# Altium schematic symbol library Microchip Microcontroller 8-Bit PIC12.SchLib: 165 symbols (part 3 of 5)
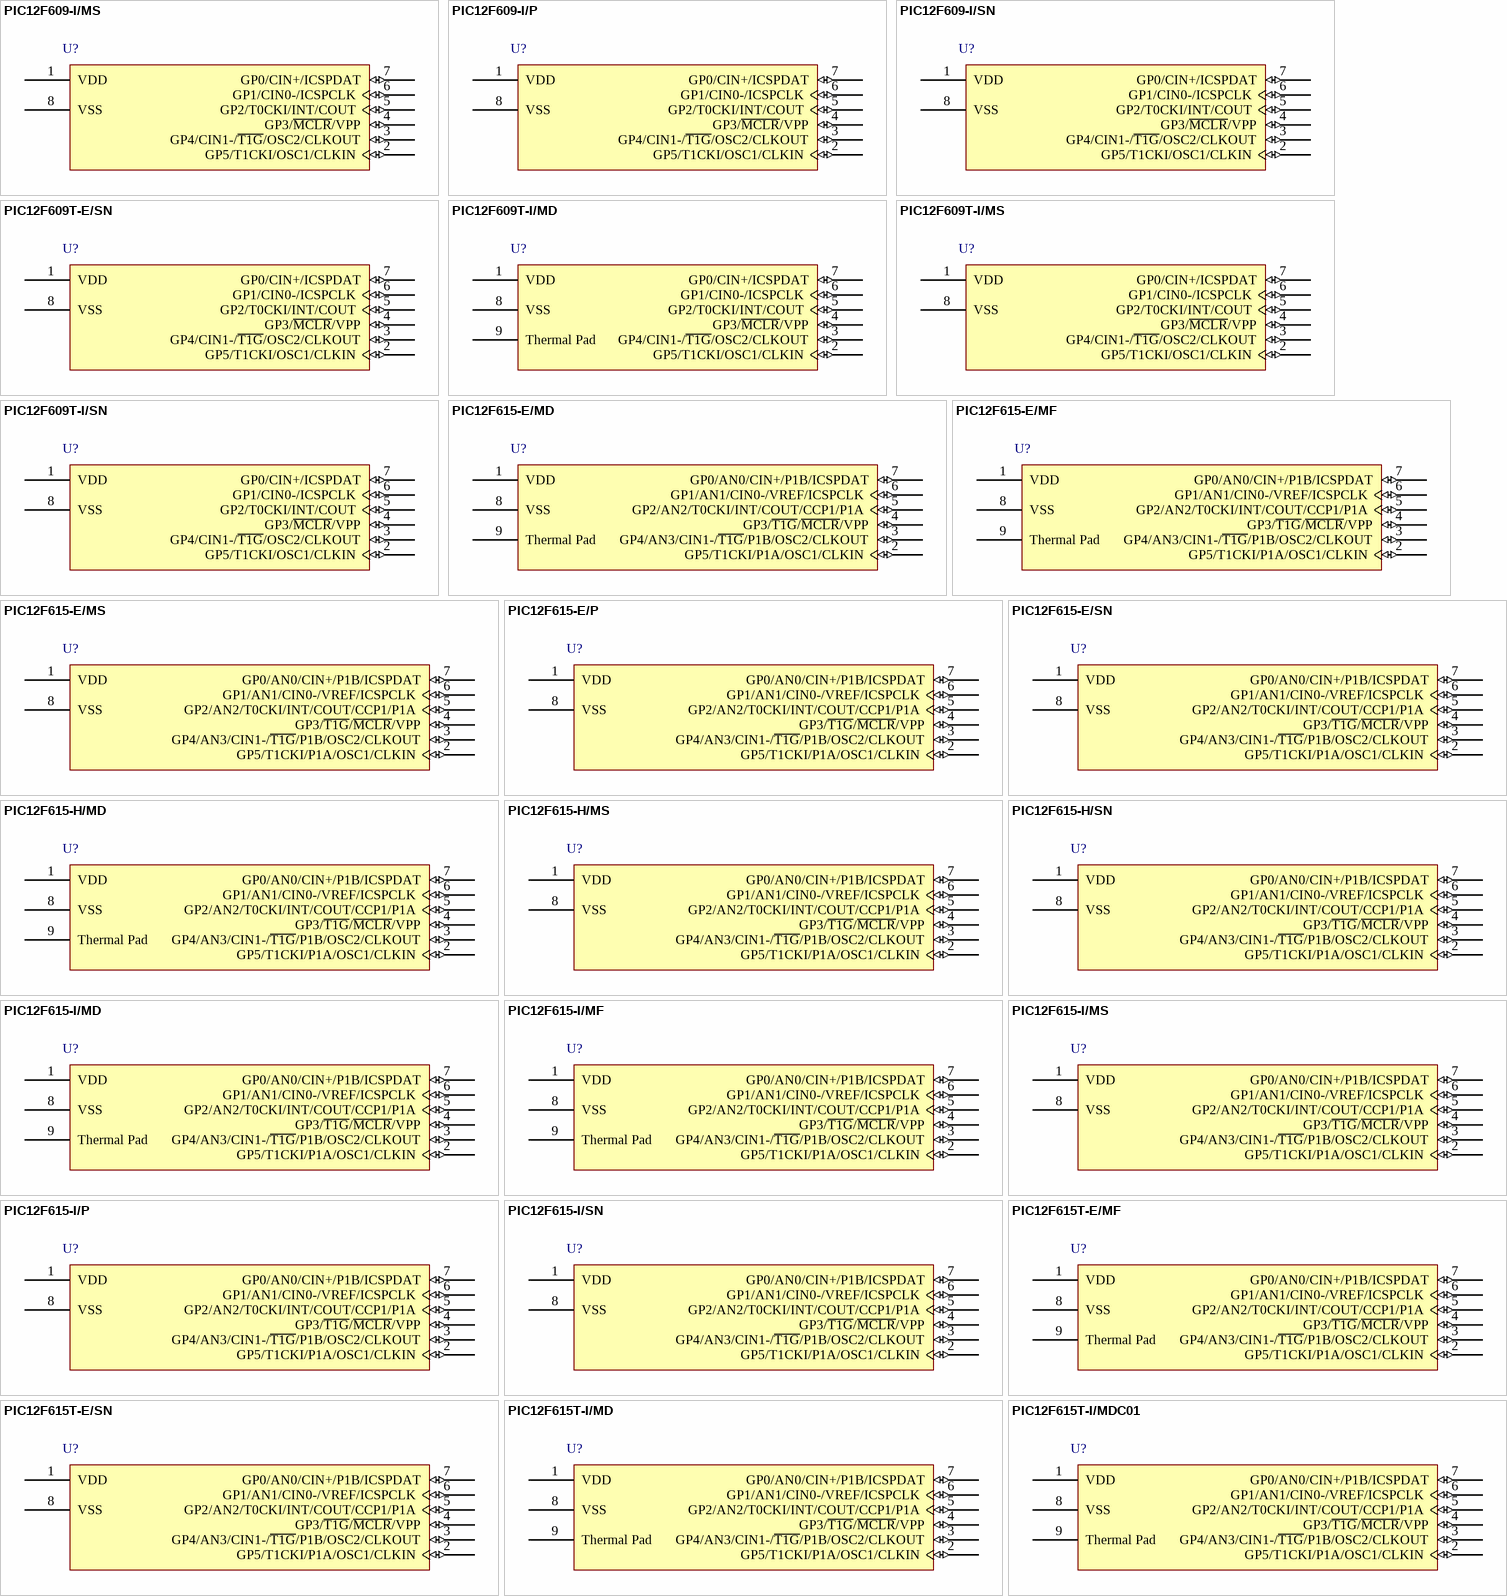
[diagram p8: symbols PIC12F609-I/MS to PIC12F615T-I/MDC01]

## PIC12F615-I/MD
designator U?
Flash-Based 8-Bit CMOS Microcontroller, 1K (x14-Bit words) Program Memory, 64 Bytes Data Memory, 8-Pin DFN, Industrial Temperature; Published: 29-Jan-2009; LatestRevisionDate: 02-Dec-2009; LatestRevisionNote: Updated to datasheet revision revC, Sep-2009; DatasheetVersion: revC, Sep-2009; PackageVersion: revBB, Aug-2009; PackageReference: DFN-MD8; Publisher: Altium Limited; PackageDescription: 8-Lead Plastic Dual Flat, No Lead Package (MD) - 4x4x0.9mm Body [DFN]; Supplier 1: Digi-Key; Supplier Part Number 1: PIC12F615-I/MD-ND; Supplier 2: Farnell; Supplier Part Number 2: 1278394; ComponentLink1Description: Datasheet; ComponentLink1URL: http://ww1.microchip.com/downloads/en/DeviceDoc/41302c.pdf; ComponentLink2Description: Packaging Specification; ComponentLink2URL: http://www.microchip.com/stellent/groups/techpub_sg/documents/packagingspec/en012702.pdf; ComponentLink3Description: Microchip.com Home; ComponentLink3URL: http://www.microchip.com/
footprint DFN-MD8 (SON, 8-Leads, Body 4x4mm, Pitch 0.8mm, Microchip Recommended)
pins: 1 VDD (power), 2 GP5/T1CKI/P1A/OSC1/CLKIN (io), 3 GP4/AN3/CIN1-/~{T1G}/P1B/OSC2/CLKOUT (io), 4 GP3/~{T1G}/~{MCLR}/VPP (io), 5 GP2/AN2/T0CKI/INT/COUT/CCP1/P1A (io), 6 GP1/AN1/CIN0-/VREF/ICSPCLK (io), 7 GP0/AN0/CIN+/P1B/ICSPDAT (io), 8 VSS (power), 9 Thermal Pad

## PIC12F615-I/MF
designator U?
Flash-Based 8-Bit CMOS Microcontroller, 1K (x14-Bit words) Program Memory, 64 Bytes Data Memory, 8-Pin DFN, Industrial Temperature; Published: 29-Jan-2009; LatestRevisionDate: 02-Dec-2009; LatestRevisionNote: Updated to datasheet revision revC, Sep-2009; DatasheetVersion: revC, Sep-2009; PackageVersion: revBB, Aug-2009; PackageReference: DFN-MF8; Publisher: Altium Limited; PackageDescription: 8-Lead Plastic Dual Flat, No Lead Package (MF) - 3x3x0.9mm Body [DFN]; Supplier 1: Digi-Key; Supplier Part Number 1: PIC12F615-I/MF-ND; Supplier 2: Farnell; Supplier Part Number 2: 1664859; ComponentLink1Description: Datasheet; ComponentLink1URL: http://ww1.microchip.com/downloads/en/DeviceDoc/41302c.pdf; ComponentLink2Description: Packaging Specification; ComponentLink2URL: http://www.microchip.com/stellent/groups/techpub_sg/documents/packagingspec/en012702.pdf; ComponentLink3Description: Microchip.com Home; ComponentLink3URL: http://www.microchip.com/
footprint DFN-MF8 (SON, 8-Leads, Body 3x3mm, Pitch 0.65mm, Microchip Recommended)
pins: 1 VDD (power), 2 GP5/T1CKI/P1A/OSC1/CLKIN (io), 3 GP4/AN3/CIN1-/~{T1G}/P1B/OSC2/CLKOUT (io), 4 GP3/~{T1G}/~{MCLR}/VPP (io), 5 GP2/AN2/T0CKI/INT/COUT/CCP1/P1A (io), 6 GP1/AN1/CIN0-/VREF/ICSPCLK (io), 7 GP0/AN0/CIN+/P1B/ICSPDAT (io), 8 VSS (power), 9 Thermal Pad

## PIC12F615-I/MS
designator U?
Flash-Based 8-Bit CMOS Microcontroller, 1K (x14-Bit words) Program Memory, 64 Bytes Data Memory, 8-Pin MSOP, Industrial Temperature; Published: 29-Jan-2009; LatestRevisionDate: 02-Dec-2009; LatestRevisionNote: Updated to datasheet revision revC, Sep-2009; DatasheetVersion: revC, Sep-2009; PackageVersion: revBB, Aug-2009; PackageReference: MSOP-MS8; Publisher: Altium Limited; PackageDescription: 8-Lead Plastic Micro Small Outline Package (MS) [MSOP]; Supplier 1: Digi-Key; Supplier Part Number 1: PIC12F615-I/MS-ND; Supplier 2: Farnell; Supplier Part Number 2: 1365035; ComponentLink1Description: Datasheet; ComponentLink1URL: http://ww1.microchip.com/downloads/en/DeviceDoc/41302c.pdf; ComponentLink2Description: Packaging Specification; ComponentLink2URL: http://www.microchip.com/stellent/groups/techpub_sg/documents/packagingspec/en012702.pdf; ComponentLink3Description: Microchip.com Home; ComponentLink3URL: http://www.microchip.com/
footprint MSOP-MS8_N (TSOP, 8-Leads, Body 3x3mm, Pitch 0.65mm, IPC Medium Density)
footprint MSOP-MS8_L (TSOP, 8-Leads, Body 3x3mm, Pitch 0.65mm, IPC High Density)
footprint MSOP-MS8_M (TSOP, 8-Leads, Body 3x3mm, Pitch 0.65mm, IPC Low Density)
pins: 1 VDD (power), 2 GP5/T1CKI/P1A/OSC1/CLKIN (io), 3 GP4/AN3/CIN1-/~{T1G}/P1B/OSC2/CLKOUT (io), 4 GP3/~{T1G}/~{MCLR}/VPP (io), 5 GP2/AN2/T0CKI/INT/COUT/CCP1/P1A (io), 6 GP1/AN1/CIN0-/VREF/ICSPCLK (io), 7 GP0/AN0/CIN+/P1B/ICSPDAT (io), 8 VSS (power)

## PIC12F615-I/P
designator U?
Flash-Based 8-Bit CMOS Microcontroller, 1K (x14-Bit words) Program Memory, 64 Bytes Data Memory, 8-Pin PDIP, Industrial Temperature; Published: 29-Jan-2009; LatestRevisionDate: 02-Dec-2009; LatestRevisionNote: Updated to datasheet revision revC, Sep-2009; DatasheetVersion: revC, Sep-2009; PackageVersion: revBB, Aug-2009; PackageReference: PDIP300-P8; Publisher: Altium Limited; PackageDescription: 8-Lead Plastic Dual In-Line (P) - 300 mil Body [PDIP]; Supplier 1: Digi-Key; Supplier Part Number 1: PIC12F615-I/P-ND; Supplier 2: Farnell; Supplier Part Number 2: 1332185; Code_JEDEC: MS-001; ComponentLink1Description: Datasheet; ComponentLink1URL: http://ww1.microchip.com/downloads/en/DeviceDoc/41302c.pdf; ComponentLink2Description: Packaging Specification; ComponentLink2URL: http://www.microchip.com/stellent/groups/techpub_sg/documents/packagingspec/en012702.pdf; ComponentLink3Description: Microchip.com Home; ComponentLink3URL: http://www.microchip.com/
footprint PDIP300-P8 (DIP, 8-Leads, Row Spacing 7.62mm, Pitch 2.54mm, Body 9.5x6.6mm)
pins: 1 VDD (power), 2 GP5/T1CKI/P1A/OSC1/CLKIN (io), 3 GP4/AN3/CIN1-/~{T1G}/P1B/OSC2/CLKOUT (io), 4 GP3/~{T1G}/~{MCLR}/VPP (io), 5 GP2/AN2/T0CKI/INT/COUT/CCP1/P1A (io), 6 GP1/AN1/CIN0-/VREF/ICSPCLK (io), 7 GP0/AN0/CIN+/P1B/ICSPDAT (io), 8 VSS (power)

## PIC12F615-I/SN
designator U?
Flash-Based 8-Bit CMOS Microcontroller, 1K (x14-Bit words) Program Memory, 64 Bytes Data Memory, 8-Pin SOIC, Industrial Temperature; Published: 29-Jan-2009; LatestRevisionDate: 02-Dec-2009; LatestRevisionNote: Updated to datasheet revision revC, Sep-2009; DatasheetVersion: revC, Sep-2009; PackageVersion: revBB, Aug-2009; PackageReference: SOIC-SN8; Publisher: Altium Limited; PackageDescription: 8-Lead Plastic Small Outline (SN) - Narrow, 3.90mm Body [SOIC]; Supplier 1: Digi-Key; Supplier Part Number 1: PIC12F615-I/SN-ND; Supplier 2: Farnell; Supplier Part Number 2: 1332186; Code_JEDEC: MS-012; Code_IPC: SOIC127P600-8; ComponentLink1Description: Datasheet; ComponentLink1URL: http://ww1.microchip.com/downloads/en/DeviceDoc/41302c.pdf; ComponentLink2Description: Packaging Specification; ComponentLink2URL: http://www.microchip.com/stellent/groups/techpub_sg/documents/packagingspec/en012702.pdf; ComponentLink3Description: Microchip.com Home; ComponentLink3URL: http://www.microchip.com/
footprint SOIC-SN8_N (SOIC, 8-Leads, Body 4.9x3.8mm, Pitch 1.27mm, IPC Medium Density)
footprint SOIC-SN8_L (SOIC, 8-Leads, Body 4.9x3.8mm, Pitch 1.27mm, IPC High Density)
footprint SOIC-SN8_M (SOIC, 8-Leads, Body 4.9x3.8mm, Pitch 1.27mm, IPC Low Density)
pins: 1 VDD (power), 2 GP5/T1CKI/P1A/OSC1/CLKIN (io), 3 GP4/AN3/CIN1-/~{T1G}/P1B/OSC2/CLKOUT (io), 4 GP3/~{T1G}/~{MCLR}/VPP (io), 5 GP2/AN2/T0CKI/INT/COUT/CCP1/P1A (io), 6 GP1/AN1/CIN0-/VREF/ICSPCLK (io), 7 GP0/AN0/CIN+/P1B/ICSPDAT (io), 8 VSS (power)

## PIC12F615T-E/MF
designator U?
Flash-Based 8-Bit CMOS Microcontroller, 1K (x14-Bit words) Program Memory, 64 Bytes Data Memory, 8-Pin DFN, Extended Temperature, Tape and Reel; Published: 29-Jan-2009; LatestRevisionDate: 02-Dec-2009; LatestRevisionNote: Updated to datasheet revision revC, Sep-2009; DatasheetVersion: revC, Sep-2009; PackageVersion: revBB, Aug-2009; PackageReference: DFN-MF8; Publisher: Altium Limited; PackageDescription: 8-Lead Plastic Dual Flat, No Lead Package (MF) - 3x3x0.9mm Body [DFN]; ComponentLink1Description: Datasheet; ComponentLink1URL: http://ww1.microchip.com/downloads/en/DeviceDoc/41302c.pdf; ComponentLink2Description: Packaging Specification; ComponentLink2URL: http://www.microchip.com/stellent/groups/techpub_sg/documents/packagingspec/en012702.pdf; ComponentLink3Description: Microchip.com Home; ComponentLink3URL: http://www.microchip.com/
footprint DFN-MF8 (SON, 8-Leads, Body 3x3mm, Pitch 0.65mm, Microchip Recommended)
pins: 1 VDD (power), 2 GP5/T1CKI/P1A/OSC1/CLKIN (io), 3 GP4/AN3/CIN1-/~{T1G}/P1B/OSC2/CLKOUT (io), 4 GP3/~{T1G}/~{MCLR}/VPP (io), 5 GP2/AN2/T0CKI/INT/COUT/CCP1/P1A (io), 6 GP1/AN1/CIN0-/VREF/ICSPCLK (io), 7 GP0/AN0/CIN+/P1B/ICSPDAT (io), 8 VSS (power), 9 Thermal Pad

## PIC12F615T-E/SN
designator U?
Flash-Based 8-Bit CMOS Microcontroller, 1K (x14-Bit words) Program Memory, 64 Bytes Data Memory, 8-Pin SOIC, Extended Temperature, Tape and Reel; Published: 29-Jan-2009; LatestRevisionDate: 02-Dec-2009; LatestRevisionNote: Updated to datasheet revision revC, Sep-2009; DatasheetVersion: revC, Sep-2009; PackageVersion: revBB, Aug-2009; PackageReference: SOIC-SN8; Publisher: Altium Limited; PackageDescription: 8-Lead Plastic Small Outline (SN) - Narrow, 3.90mm Body [SOIC]; Code_JEDEC: MS-012; Code_IPC: SOIC127P600-8; ComponentLink1Description: Datasheet; ComponentLink1URL: http://ww1.microchip.com/downloads/en/DeviceDoc/41302c.pdf; ComponentLink2Description: Packaging Specification; ComponentLink2URL: http://www.microchip.com/stellent/groups/techpub_sg/documents/packagingspec/en012702.pdf; ComponentLink3Description: Microchip.com Home; ComponentLink3URL: http://www.microchip.com/
footprint SOIC-SN8_N (SOIC, 8-Leads, Body 4.9x3.8mm, Pitch 1.27mm, IPC Medium Density)
footprint SOIC-SN8_L (SOIC, 8-Leads, Body 4.9x3.8mm, Pitch 1.27mm, IPC High Density)
footprint SOIC-SN8_M (SOIC, 8-Leads, Body 4.9x3.8mm, Pitch 1.27mm, IPC Low Density)
pins: 1 VDD (power), 2 GP5/T1CKI/P1A/OSC1/CLKIN (io), 3 GP4/AN3/CIN1-/~{T1G}/P1B/OSC2/CLKOUT (io), 4 GP3/~{T1G}/~{MCLR}/VPP (io), 5 GP2/AN2/T0CKI/INT/COUT/CCP1/P1A (io), 6 GP1/AN1/CIN0-/VREF/ICSPCLK (io), 7 GP0/AN0/CIN+/P1B/ICSPDAT (io), 8 VSS (power)

## PIC12F615T-I/MD
designator U?
Flash-Based 8-Bit CMOS Microcontroller, 1K (x14-Bit words) Program Memory, 64 Bytes Data Memory, 8-Pin DFN, Industrial Temperature, Tape and Reel; Published: 29-Jan-2009; LatestRevisionDate: 02-Dec-2009; LatestRevisionNote: Updated to datasheet revision revC, Sep-2009; DatasheetVersion: revC, Sep-2009; PackageVersion: revBB, Aug-2009; PackageReference: DFN-MD8; Publisher: Altium Limited; PackageDescription: 8-Lead Plastic Dual Flat, No Lead Package (MD) - 4x4x0.9mm Body [DFN]; Supplier 1: Digi-Key; Supplier Part Number 1: PIC12F615T-I/MD-ND; ComponentLink1Description: Datasheet; ComponentLink1URL: http://ww1.microchip.com/downloads/en/DeviceDoc/41302c.pdf; ComponentLink2Description: Packaging Specification; ComponentLink2URL: http://www.microchip.com/stellent/groups/techpub_sg/documents/packagingspec/en012702.pdf; ComponentLink3Description: Microchip.com Home; ComponentLink3URL: http://www.microchip.com/
footprint DFN-MD8 (SON, 8-Leads, Body 4x4mm, Pitch 0.8mm, Microchip Recommended)
pins: 1 VDD (power), 2 GP5/T1CKI/P1A/OSC1/CLKIN (io), 3 GP4/AN3/CIN1-/~{T1G}/P1B/OSC2/CLKOUT (io), 4 GP3/~{T1G}/~{MCLR}/VPP (io), 5 GP2/AN2/T0CKI/INT/COUT/CCP1/P1A (io), 6 GP1/AN1/CIN0-/VREF/ICSPCLK (io), 7 GP0/AN0/CIN+/P1B/ICSPDAT (io), 8 VSS (power), 9 Thermal Pad

## PIC12F615T-I/MDC01
designator U?
Flash-Based 8-Bit CMOS Microcontroller, 1K (x14-Bit words) Program Memory, 64 Bytes Data Memory, 8-Pin DFN, Industrial Temperature, Tape and Reel; Published: 29-Jan-2009; LatestRevisionDate: 02-Dec-2009; LatestRevisionNote: Updated to datasheet revision revC, Sep-2009; DatasheetVersion: revC, Sep-2009; PackageVersion: revBB, Aug-2009; PackageReference: DFN-MD8; Publisher: Altium Limited; PackageDescription: 8-Lead Plastic Dual Flat, No Lead Package (MD) - 4x4x0.9mm Body [DFN]; ComponentLink1Description: Datasheet; ComponentLink1URL: http://ww1.microchip.com/downloads/en/DeviceDoc/41302c.pdf; ComponentLink2Description: Packaging Specification; ComponentLink2URL: http://www.microchip.com/stellent/groups/techpub_sg/documents/packagingspec/en012702.pdf; ComponentLink3Description: Microchip.com Home; ComponentLink3URL: http://www.microchip.com/
footprint DFN-MD8 (SON, 8-Leads, Body 4x4mm, Pitch 0.8mm, Microchip Recommended)
pins: 1 VDD (power), 2 GP5/T1CKI/P1A/OSC1/CLKIN (io), 3 GP4/AN3/CIN1-/~{T1G}/P1B/OSC2/CLKOUT (io), 4 GP3/~{T1G}/~{MCLR}/VPP (io), 5 GP2/AN2/T0CKI/INT/COUT/CCP1/P1A (io), 6 GP1/AN1/CIN0-/VREF/ICSPCLK (io), 7 GP0/AN0/CIN+/P1B/ICSPDAT (io), 8 VSS (power), 9 Thermal Pad

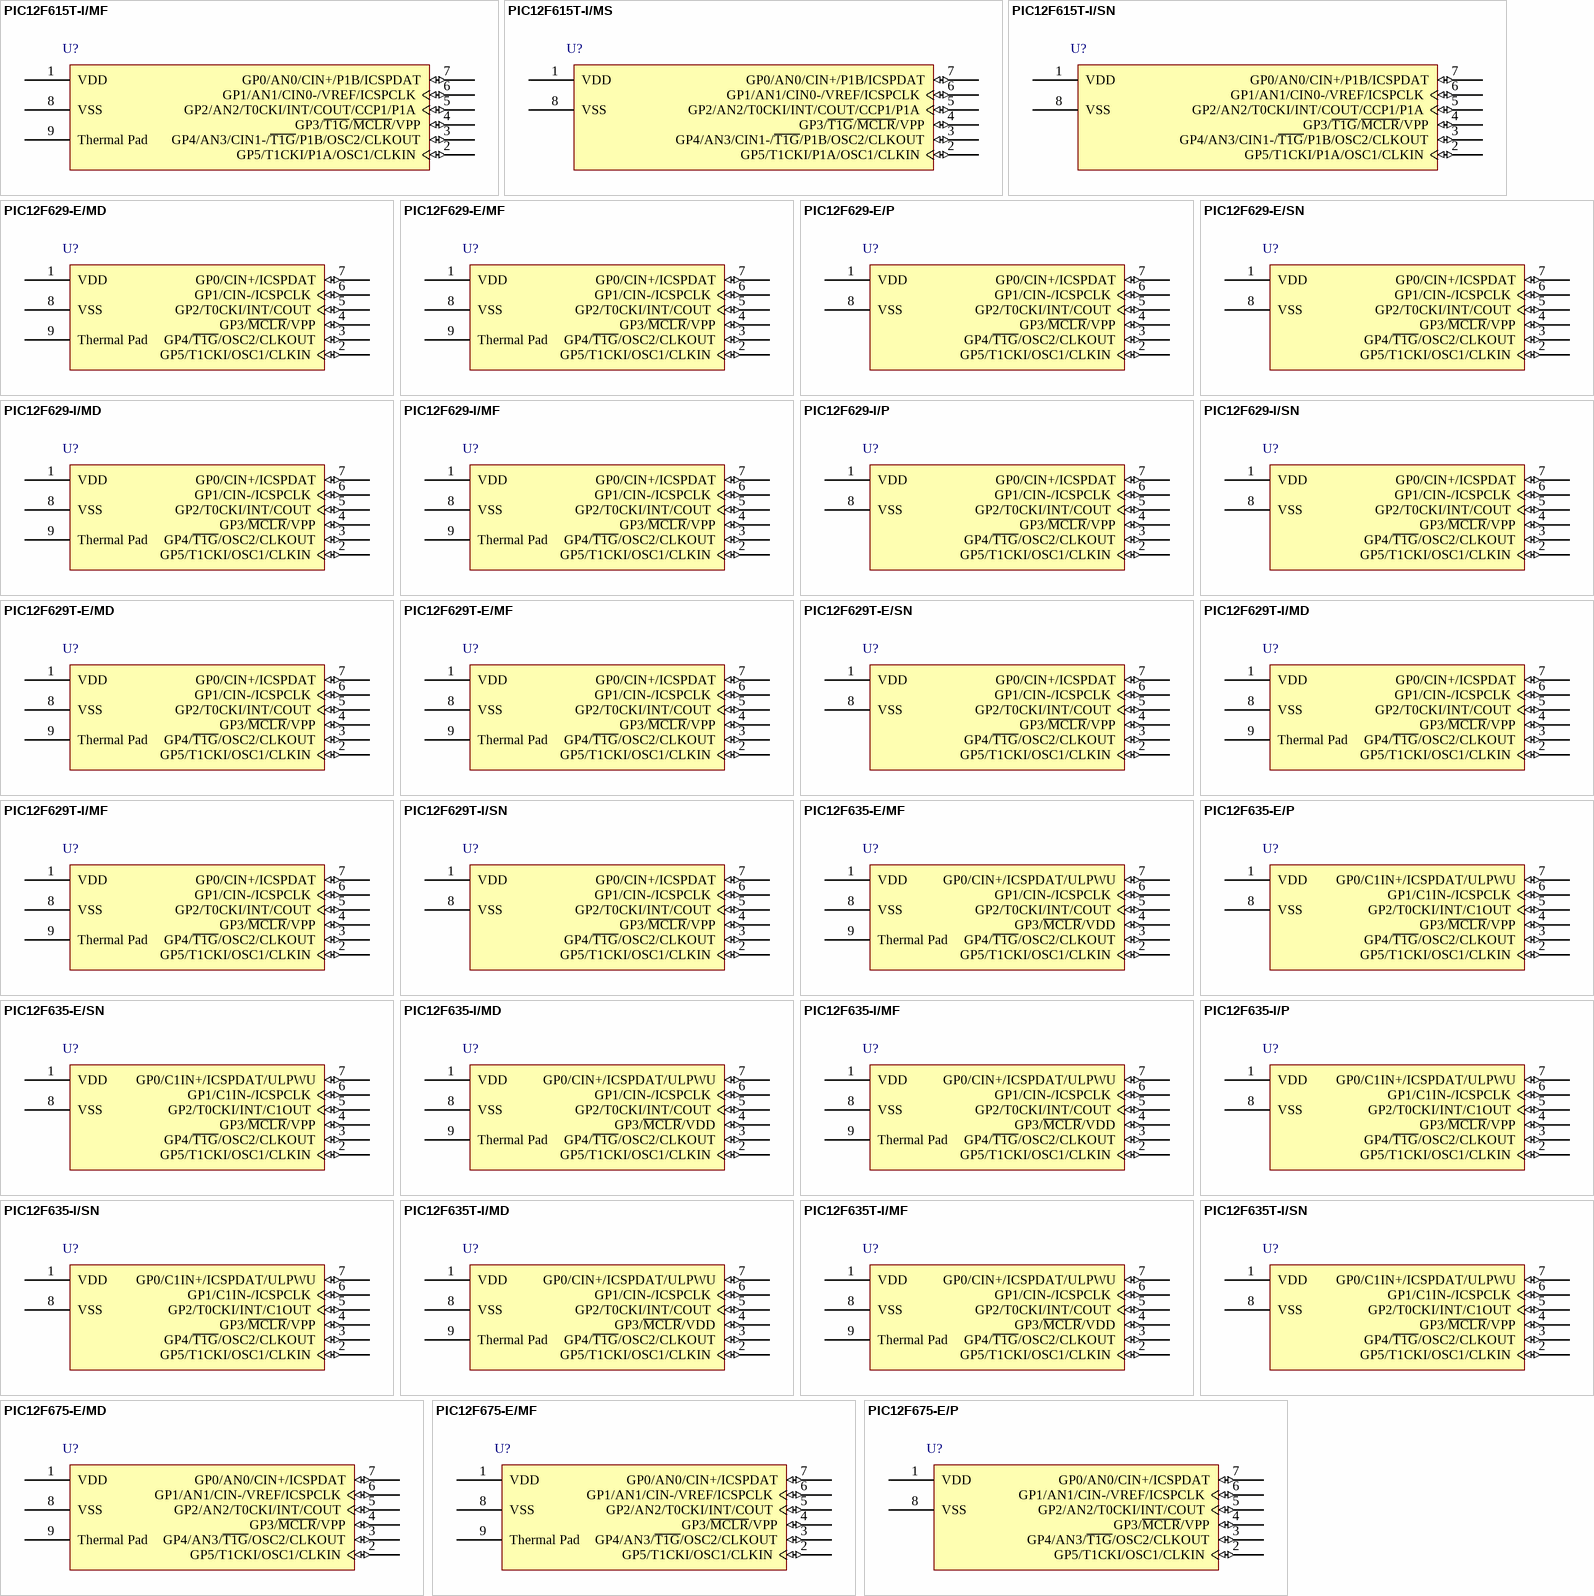
[diagram p3: symbols PIC12F615T-I/MF to PIC12F675-E/P]

## PIC12F615T-I/MF
designator U?
Flash-Based 8-Bit CMOS Microcontroller, 1K (x14-Bit words) Program Memory, 64 Bytes Data Memory, 8-Pin DFN, Industrial Temperature, Tape and Reel; Published: 2-Dec-2009; DatasheetVersion: revC, Sep-2009; PackageVersion: revBB, Aug-2009; PackageReference: DFNS-MF8; Publisher: Altium Limited; PackageDescription: 8-Lead Plastic Dual Flat, No Lead Package (MF) - 6x5 mm Body [DFN-S]; Supplier 1: Digi-Key; Supplier Part Number 1: PIC12F615T-I/MF-ND; ComponentLink1Description: Datasheet; ComponentLink1URL: http://ww1.microchip.com/downloads/en/DeviceDoc/41302c.pdf; ComponentLink2Description: Packaging Specification; ComponentLink2URL: http://www.microchip.com/stellent/groups/techpub_sg/documents/packagingspec/en012702.pdf; ComponentLink3Description: Microchip.com Home; ComponentLink3URL: http://www.microchip.com/
footprint DFNS-MF8 (SON, 8-Leads, Body 5x6mm, Pitch 1.27mm, Microchip Recommended)
pins: 1 VDD (power), 2 GP5/T1CKI/P1A/OSC1/CLKIN (io), 3 GP4/AN3/CIN1-/~{T1G}/P1B/OSC2/CLKOUT (io), 4 GP3/~{T1G}/~{MCLR}/VPP (io), 5 GP2/AN2/T0CKI/INT/COUT/CCP1/P1A (io), 6 GP1/AN1/CIN0-/VREF/ICSPCLK (io), 7 GP0/AN0/CIN+/P1B/ICSPDAT (io), 8 VSS (power), 9 Thermal Pad

## PIC12F615T-I/MS
designator U?
Flash-Based 8-Bit CMOS Microcontroller, 1K (x14-Bit words) Program Memory, 64 Bytes Data Memory, 8-Pin MSOP, Industrial Temperature, Tape and Reel; Published: 29-Jan-2009; LatestRevisionDate: 02-Dec-2009; LatestRevisionNote: Updated to datasheet revision revC, Sep-2009; DatasheetVersion: revC, Sep-2009; PackageVersion: revBB, Aug-2009; PackageReference: MSOP-MS8; Publisher: Altium Limited; PackageDescription: 8-Lead Plastic Micro Small Outline Package (MS) [MSOP]; Supplier 1: Digi-Key; Supplier Part Number 1: PIC12F615T-I/MS-ND; ComponentLink1Description: Datasheet; ComponentLink1URL: http://ww1.microchip.com/downloads/en/DeviceDoc/41302c.pdf; ComponentLink2Description: Packaging Specification; ComponentLink2URL: http://www.microchip.com/stellent/groups/techpub_sg/documents/packagingspec/en012702.pdf; ComponentLink3Description: Microchip.com Home; ComponentLink3URL: http://www.microchip.com/
footprint MSOP-MS8_N (TSOP, 8-Leads, Body 3x3mm, Pitch 0.65mm, IPC Medium Density)
footprint MSOP-MS8_L (TSOP, 8-Leads, Body 3x3mm, Pitch 0.65mm, IPC High Density)
footprint MSOP-MS8_M (TSOP, 8-Leads, Body 3x3mm, Pitch 0.65mm, IPC Low Density)
pins: 1 VDD (power), 2 GP5/T1CKI/P1A/OSC1/CLKIN (io), 3 GP4/AN3/CIN1-/~{T1G}/P1B/OSC2/CLKOUT (io), 4 GP3/~{T1G}/~{MCLR}/VPP (io), 5 GP2/AN2/T0CKI/INT/COUT/CCP1/P1A (io), 6 GP1/AN1/CIN0-/VREF/ICSPCLK (io), 7 GP0/AN0/CIN+/P1B/ICSPDAT (io), 8 VSS (power)

## PIC12F615T-I/SN
designator U?
Flash-Based 8-Bit CMOS Microcontroller, 1K (x14-Bit words) Program Memory, 64 Bytes Data Memory, 8-Pin SOIC, Industrial Temperature, Tape and Reel; Published: 29-Jan-2009; LatestRevisionDate: 02-Dec-2009; LatestRevisionNote: Updated to datasheet revision revC, Sep-2009; DatasheetVersion: revC, Sep-2009; PackageVersion: revBB, Aug-2009; PackageReference: SOIC-SN8; Publisher: Altium Limited; PackageDescription: 8-Lead Plastic Small Outline (SN) - Narrow, 3.90mm Body [SOIC]; Supplier 1: Digi-Key; Supplier Part Number 1: PIC12F615T-I/SN-ND; Code_JEDEC: MS-012; Code_IPC: SOIC127P600-8; ComponentLink1Description: Datasheet; ComponentLink1URL: http://ww1.microchip.com/downloads/en/DeviceDoc/41302c.pdf; ComponentLink2Description: Packaging Specification; ComponentLink2URL: http://www.microchip.com/stellent/groups/techpub_sg/documents/packagingspec/en012702.pdf; ComponentLink3Description: Microchip.com Home; ComponentLink3URL: http://www.microchip.com/
footprint SOIC-SN8_N (SOIC, 8-Leads, Body 4.9x3.8mm, Pitch 1.27mm, IPC Medium Density)
footprint SOIC-SN8_L (SOIC, 8-Leads, Body 4.9x3.8mm, Pitch 1.27mm, IPC High Density)
footprint SOIC-SN8_M (SOIC, 8-Leads, Body 4.9x3.8mm, Pitch 1.27mm, IPC Low Density)
pins: 1 VDD (power), 2 GP5/T1CKI/P1A/OSC1/CLKIN (io), 3 GP4/AN3/CIN1-/~{T1G}/P1B/OSC2/CLKOUT (io), 4 GP3/~{T1G}/~{MCLR}/VPP (io), 5 GP2/AN2/T0CKI/INT/COUT/CCP1/P1A (io), 6 GP1/AN1/CIN0-/VREF/ICSPCLK (io), 7 GP0/AN0/CIN+/P1B/ICSPDAT (io), 8 VSS (power)

## PIC12F629-E/MD
designator U?
Flash-Based 8-Bit CMOS Microcontroller, 1K (x14-Bit words) Program Memory, 192 Bytes Data Memory, 8-Pin DFN, Extended Temperature; Published: 29-Jan-2009; LatestRevisionDate: 02-Dec-2009; LatestRevisionNote: Updated to datasheet revision revF, Sep-2009.; DatasheetVersion: revF, Sep-2009; PackageVersion: revBB, Aug-2009; PackageReference: DFN-MD8; Publisher: Altium Limited; PackageDescription: 8-Lead Plastic Dual Flat, No Lead Package (MD) - 4x4x0.9mm Body [DFN]; Supplier 1: Digi-Key; Supplier Part Number 1: PIC12F629-E/MD-ND; ComponentLink1Description: Datasheet; ComponentLink1URL: http://ww1.microchip.com/downloads/en/DeviceDoc/41190F.pdf; ComponentLink2Description: Packaging Specification; ComponentLink2URL: http://www.microchip.com/stellent/groups/techpub_sg/documents/packagingspec/en012702.pdf; ComponentLink3Description: Microchip.com Home; ComponentLink3URL: http://www.microchip.com/
footprint DFN-MD8 (SON, 8-Leads, Body 4x4mm, Pitch 0.8mm, Microchip Recommended)
pins: 1 VDD (power), 2 GP5/T1CKI/OSC1/CLKIN (io), 3 GP4/~{T1G}/OSC2/CLKOUT (io), 4 GP3/~{MCLR}/VPP (io), 5 GP2/T0CKI/INT/COUT (io), 6 GP1/CIN-/ICSPCLK (io), 7 GP0/CIN+/ICSPDAT (io), 8 VSS (power), 9 Thermal Pad

## PIC12F629-E/MF
designator U?
Flash-Based 8-Bit CMOS Microcontroller, 1K (x14-Bit words) Program Memory, 192 Bytes Data Memory, 8-Pin DFN, Extended Temperature; Published: 29-Jan-2009; LatestRevisionDate: 02-Dec-2009; LatestRevisionNote: Updated to datasheet revision revF, Sep-2009.; DatasheetVersion: revF, Sep-2009; PackageVersion: revBB, Aug-2009; PackageReference: DFNS-MF8; Publisher: Altium Limited; PackageDescription: 8-Lead Plastic Dual Flat, No Lead Package (MF) - 6x5 mm Body [DFN-S]; Supplier 1: Digi-Key; Supplier Part Number 1: PIC12F629-E/MF-ND; ComponentLink1Description: Datasheet; ComponentLink1URL: http://ww1.microchip.com/downloads/en/DeviceDoc/41190F.pdf; ComponentLink2Description: Packaging Specification; ComponentLink2URL: http://www.microchip.com/stellent/groups/techpub_sg/documents/packagingspec/en012702.pdf; ComponentLink3Description: Microchip.com Home; ComponentLink3URL: http://www.microchip.com/
footprint DFNS-MF8 (SON, 8-Leads, Body 5x6mm, Pitch 1.27mm, Microchip Recommended)
pins: 1 VDD (power), 2 GP5/T1CKI/OSC1/CLKIN (io), 3 GP4/~{T1G}/OSC2/CLKOUT (io), 4 GP3/~{MCLR}/VPP (io), 5 GP2/T0CKI/INT/COUT (io), 6 GP1/CIN-/ICSPCLK (io), 7 GP0/CIN+/ICSPDAT (io), 8 VSS (power), 9 Thermal Pad

## PIC12F629-E/P
designator U?
FLASH-Based 8-Bit CMOS Microcontroller, 8-Pin PDIP, Extended Temperature; Note: Refer to data sheet (DS41190F) for details of supply voltage range under different conditions.; Published: 11-Oct-2004; LatestRevisionDate: 02-Dec-2009; LatestRevisionNote: Updated to datasheet revision revF, Sep-2009.; DatasheetVersion: revF, Sep-2009; PackageVersion: revBB, Aug-2009; PackageReference: PDIP300-P8; Publisher: Altium Limited; PackageDescription: 8-Lead Plastic Dual In-Line (P) - 300 mil Body [PDIP]; Supplier 1: Digi-Key; Supplier Part Number 1: PIC12F629-E/P-ND; Supplier 2: Farnell; Supplier Part Number 2: 1292253; Code_JEDEC: MS-001; ComponentLink1Description: Datasheet; ComponentLink1URL: http://ww1.microchip.com/downloads/en/DeviceDoc/41190F.pdf; ComponentLink2Description: Packaging Specification; ComponentLink2URL: http://www.microchip.com/stellent/groups/techpub_sg/documents/packagingspec/en012702.pdf; ComponentLink3Description: Microchip.com Home; ComponentLink3URL: http://www.microchip.com/
footprint PDIP300-P8 (DIP, 8-Leads, Row Spacing 7.62mm, Pitch 2.54mm, Body 9.5x6.6mm)
pins: 1 VDD (power), 2 GP5/T1CKI/OSC1/CLKIN (io), 3 GP4/~{T1G}/OSC2/CLKOUT (io), 4 GP3/~{MCLR}/VPP (io), 5 GP2/T0CKI/INT/COUT (io), 6 GP1/CIN-/ICSPCLK (io), 7 GP0/CIN+/ICSPDAT (io), 8 VSS (power)

## PIC12F629-E/SN
designator U?
FLASH-Based 8-Bit CMOS Microcontroller, 8-Pin SOIC 150mil, Extended Temperature; Note: Refer to data sheet (DS41190F) for details of supply voltage range under different conditions.; Published: 11-Oct-2004; LatestRevisionDate: 02-Dec-2009; LatestRevisionNote: Updated to datasheet revision revF, Sep-2009.; DatasheetVersion: revF, Sep-2009; PackageVersion: revBB, Aug-2009; PackageReference: SOIC-SN8; Publisher: Altium Limited; PackageDescription: 8-Lead Plastic Small Outline (SN) - Narrow, 3.90mm Body [SOIC]; Supplier 1: Digi-Key; Supplier Part Number 1: PIC12F629-E/SN-ND; Supplier 2: Farnell; Supplier Part Number 2: 1567988; Code_JEDEC: MS-012; Code_IPC: SOIC127P600-8; ComponentLink1Description: Datasheet; ComponentLink1URL: http://ww1.microchip.com/downloads/en/DeviceDoc/41190F.pdf; ComponentLink2Description: Packaging Specification; ComponentLink2URL: http://www.microchip.com/stellent/groups/techpub_sg/documents/packagingspec/en012702.pdf; ComponentLink3Description: Microchip.com Home; ComponentLink3URL: http://www.microchip.com/
footprint SOIC-SN8_N (SOIC, 8-Leads, Body 4.9x3.8mm, Pitch 1.27mm, IPC Medium Density)
footprint SOIC-SN8_L (SOIC, 8-Leads, Body 4.9x3.8mm, Pitch 1.27mm, IPC High Density)
footprint SOIC-SN8_M (SOIC, 8-Leads, Body 4.9x3.8mm, Pitch 1.27mm, IPC Low Density)
pins: 1 VDD (power), 2 GP5/T1CKI/OSC1/CLKIN (io), 3 GP4/~{T1G}/OSC2/CLKOUT (io), 4 GP3/~{MCLR}/VPP (io), 5 GP2/T0CKI/INT/COUT (io), 6 GP1/CIN-/ICSPCLK (io), 7 GP0/CIN+/ICSPDAT (io), 8 VSS (power)

## PIC12F629-I/MD
designator U?
Flash-Based 8-Bit CMOS Microcontroller, 1K (x14-Bit words) Program Memory, 192 Bytes Data Memory, 8-Pin DFN, Industrial Temperature; Published: 29-Jan-2009; LatestRevisionDate: 02-Dec-2009; LatestRevisionNote: Updated to datasheet revision revF, Sep-2009.; DatasheetVersion: revF, Sep-2009; PackageVersion: revBB, Aug-2009; PackageReference: DFN-MD8; Publisher: Altium Limited; PackageDescription: 8-Lead Plastic Dual Flat, No Lead Package (MD) - 4x4x0.9mm Body [DFN]; Supplier 1: Digi-Key; Supplier Part Number 1: PIC12F629-I/MD-ND; Supplier 2: Farnell; Supplier Part Number 2: 1332187; ComponentLink1Description: Datasheet; ComponentLink1URL: http://ww1.microchip.com/downloads/en/DeviceDoc/41190F.pdf; ComponentLink2Description: Packaging Specification; ComponentLink2URL: http://www.microchip.com/stellent/groups/techpub_sg/documents/packagingspec/en012702.pdf; ComponentLink3Description: Microchip.com Home; ComponentLink3URL: http://www.microchip.com/
footprint DFN-MD8 (SON, 8-Leads, Body 4x4mm, Pitch 0.8mm, Microchip Recommended)
pins: 1 VDD (power), 2 GP5/T1CKI/OSC1/CLKIN (io), 3 GP4/~{T1G}/OSC2/CLKOUT (io), 4 GP3/~{MCLR}/VPP (io), 5 GP2/T0CKI/INT/COUT (io), 6 GP1/CIN-/ICSPCLK (io), 7 GP0/CIN+/ICSPDAT (io), 8 VSS (power), 9 Thermal Pad

## PIC12F629-I/MF
designator U?
Flash-Based 8-Bit CMOS Microcontroller, 1K (x14-Bit words) Program Memory, 192 Bytes Data Memory, 8-Pin DFN, Industrial Temperature; Published: 29-Jan-2009; LatestRevisionDate: 02-Dec-2009; LatestRevisionNote: Updated to datasheet revision revF, Sep-2009.; DatasheetVersion: revF, Sep-2009; PackageVersion: revBB, Aug-2009; PackageReference: DFNS-MF8; Publisher: Altium Limited; PackageDescription: 8-Lead Plastic Dual Flat, No Lead Package (MF) - 6x5 mm Body [DFN-S]; Supplier 1: Digi-Key; Supplier Part Number 1: PIC12F629-I/MF-ND; Supplier 2: Farnell; Supplier Part Number 2: 1618004; ComponentLink1Description: Datasheet; ComponentLink1URL: http://ww1.microchip.com/downloads/en/DeviceDoc/41190F.pdf; ComponentLink2Description: Packaging Specification; ComponentLink2URL: http://www.microchip.com/stellent/groups/techpub_sg/documents/packagingspec/en012702.pdf; ComponentLink3Description: Microchip.com Home; ComponentLink3URL: http://www.microchip.com/
footprint DFNS-MF8 (SON, 8-Leads, Body 5x6mm, Pitch 1.27mm, Microchip Recommended)
pins: 1 VDD (power), 2 GP5/T1CKI/OSC1/CLKIN (io), 3 GP4/~{T1G}/OSC2/CLKOUT (io), 4 GP3/~{MCLR}/VPP (io), 5 GP2/T0CKI/INT/COUT (io), 6 GP1/CIN-/ICSPCLK (io), 7 GP0/CIN+/ICSPDAT (io), 8 VSS (power), 9 Thermal Pad

## PIC12F629-I/P
designator U?
FLASH-Based 8-Bit CMOS Microcontroller, 8-Pin PDIP, Industrial Temperature; Note: Refer to data sheet (DS41190F) for details of supply voltage range under different conditions.; Published: 11-Oct-2004; LatestRevisionDate: 02-Dec-2009; LatestRevisionNote: Updated to datasheet revision revF, Sep-2009.; DatasheetVersion: revF, Sep-2009; PackageVersion: revBB, Aug-2009; PackageReference: PDIP300-P8; Publisher: Altium Limited; PackageDescription: 8-Lead Plastic Dual In-Line (P) - 300 mil Body [PDIP]; Supplier 1: Digi-Key; Supplier Part Number 1: PIC12F629-I/P-ND; Supplier 2: Farnell; Supplier Part Number 2: 9758992; Supplier 3: Farnell; Supplier Part Number 3: 1523920; Code_JEDEC: MS-001; ComponentLink1Description: Datasheet; ComponentLink1URL: http://ww1.microchip.com/downloads/en/DeviceDoc/41190F.pdf; ComponentLink2Description: Packaging Specification; ComponentLink2URL: http://www.microchip.com/stellent/groups/techpub_sg/documents/packagingspec/en012702.pdf; ComponentLink3Description: Microchip.com Home; ComponentLink3URL: http://www.microchip.com/
footprint PDIP300-P8 (DIP, 8-Leads, Row Spacing 7.62mm, Pitch 2.54mm, Body 9.5x6.6mm)
pins: 1 VDD (power), 2 GP5/T1CKI/OSC1/CLKIN (io), 3 GP4/~{T1G}/OSC2/CLKOUT (io), 4 GP3/~{MCLR}/VPP (io), 5 GP2/T0CKI/INT/COUT (io), 6 GP1/CIN-/ICSPCLK (io), 7 GP0/CIN+/ICSPDAT (io), 8 VSS (power)

## PIC12F629-I/SN
designator U?
FLASH-Based 8-Bit CMOS Microcontroller, 8-Pin SOIC 150mil, Industrial Temperature; Note: Refer to data sheet (DS41190F) for details of supply voltage range under different conditions.; Published: 11-Oct-2004; LatestRevisionDate: 02-Dec-2009; LatestRevisionNote: Updated to datasheet revision revF, Sep-2009.; DatasheetVersion: revF, Sep-2009; PackageVersion: revBB, Aug-2009; PackageReference: SOIC-SN8; Publisher: Altium Limited; PackageDescription: 8-Lead Plastic Small Outline (SN) - Narrow, 3.90mm Body [SOIC]; Supplier 1: Digi-Key; Supplier Part Number 1: PIC12F629-I/SN-ND; Supplier 2: Farnell; Supplier Part Number 2: 9759000; Supplier 3: Farnell; Supplier Part Number 3: 1660010; Code_JEDEC: MS-012; Code_IPC: SOIC127P600-8; ComponentLink1Description: Datasheet; ComponentLink1URL: http://ww1.microchip.com/downloads/en/DeviceDoc/41190F.pdf; ComponentLink2Description: Packaging Specification; ComponentLink2URL: http://www.microchip.com/stellent/groups/techpub_sg/documents/packagingspec/en012702.pdf; ComponentLink3Description: Microchip.com Home; ComponentLink3URL: http://www.microchip.com/
footprint SOIC-SN8_N (SOIC, 8-Leads, Body 4.9x3.8mm, Pitch 1.27mm, IPC Medium Density)
footprint SOIC-SN8_L (SOIC, 8-Leads, Body 4.9x3.8mm, Pitch 1.27mm, IPC High Density)
footprint SOIC-SN8_M (SOIC, 8-Leads, Body 4.9x3.8mm, Pitch 1.27mm, IPC Low Density)
pins: 1 VDD (power), 2 GP5/T1CKI/OSC1/CLKIN (io), 3 GP4/~{T1G}/OSC2/CLKOUT (io), 4 GP3/~{MCLR}/VPP (io), 5 GP2/T0CKI/INT/COUT (io), 6 GP1/CIN-/ICSPCLK (io), 7 GP0/CIN+/ICSPDAT (io), 8 VSS (power)

## PIC12F629T-E/MD
designator U?
Flash-Based 8-Bit CMOS Microcontroller, 1K (x14-Bit words) Program Memory, 192 Bytes Data Memory, 8-Pin DFN, Extended Temperature, Tape and Reel; Published: 2-Dec-2009; DatasheetVersion: revF, Sep-2009; PackageVersion: revBB, Aug-2009; PackageReference: DFN-MD8; Publisher: Altium Limited; PackageDescription: 8-Lead Plastic Dual Flat, No Lead Package (MD) - 4x4x0.9mm Body [DFN]; ComponentLink1Description: Datasheet; ComponentLink1URL: http://ww1.microchip.com/downloads/en/DeviceDoc/41190F.pdf; ComponentLink2Description: Packaging Specification; ComponentLink2URL: http://www.microchip.com/stellent/groups/techpub_sg/documents/packagingspec/en012702.pdf; ComponentLink3Description: Microchip.com Home; ComponentLink3URL: http://www.microchip.com/
footprint DFN-MD8 (SON, 8-Leads, Body 4x4mm, Pitch 0.8mm, Microchip Recommended)
pins: 1 VDD (power), 2 GP5/T1CKI/OSC1/CLKIN (io), 3 GP4/~{T1G}/OSC2/CLKOUT (io), 4 GP3/~{MCLR}/VPP (io), 5 GP2/T0CKI/INT/COUT (io), 6 GP1/CIN-/ICSPCLK (io), 7 GP0/CIN+/ICSPDAT (io), 8 VSS (power), 9 Thermal Pad

## PIC12F629T-E/MF
designator U?
Flash-Based 8-Bit CMOS Microcontroller, 1K (x14-Bit words) Program Memory, 192 Bytes Data Memory, 8-Pin DFN, Extended Temperature, Tape and Reel; Published: 29-Jan-2009; LatestRevisionDate: 02-Dec-2009; LatestRevisionNote: Updated to datasheet revision revF, Sep-2009.; DatasheetVersion: revF, Sep-2009; PackageVersion: revBB, Aug-2009; PackageReference: DFNS-MF8; Publisher: Altium Limited; PackageDescription: 8-Lead Plastic Dual Flat, No Lead Package (MF) - 6x5 mm Body [DFN-S]; Supplier 1: Digi-Key; Supplier Part Number 1: PIC12F629-E/MFTR-ND; ComponentLink1Description: Datasheet; ComponentLink1URL: http://ww1.microchip.com/downloads/en/DeviceDoc/41190F.pdf; ComponentLink2Description: Packaging Specification; ComponentLink2URL: http://www.microchip.com/stellent/groups/techpub_sg/documents/packagingspec/en012702.pdf; ComponentLink3Description: Microchip.com Home; ComponentLink3URL: http://www.microchip.com/
footprint DFNS-MF8 (SON, 8-Leads, Body 5x6mm, Pitch 1.27mm, Microchip Recommended)
pins: 1 VDD (power), 2 GP5/T1CKI/OSC1/CLKIN (io), 3 GP4/~{T1G}/OSC2/CLKOUT (io), 4 GP3/~{MCLR}/VPP (io), 5 GP2/T0CKI/INT/COUT (io), 6 GP1/CIN-/ICSPCLK (io), 7 GP0/CIN+/ICSPDAT (io), 8 VSS (power), 9 Thermal Pad

## PIC12F629T-E/SN
designator U?
FLASH-Based 8-Bit CMOS Microcontroller, 8-Pin SOIC 150mil, Extended Temperature, Tape and Reel; Note: Refer to data sheet (DS41190F) for details of supply voltage range under different conditions.; Published: 11-Oct-2004; LatestRevisionDate: 02-Dec-2009; LatestRevisionNote: Updated to datasheet revision revF, Sep-2009.; DatasheetVersion: revF, Sep-2009; PackageVersion: revBB, Aug-2009; PackageReference: SOIC-SN8; Publisher: Altium Limited; PackageDescription: 8-Lead Plastic Small Outline (SN) - Narrow, 3.90mm Body [SOIC]; Supplier 1: Digi-Key; Supplier Part Number 1: PIC12F629T-E/SNTR-ND; Supplier 2: Digi-Key; Supplier Part Number 2: PIC12F629T-E/SNCT-ND; Supplier 3: Digi-Key; Supplier Part Number 3: PIC12F629T-E/SNDKR-ND; Supplier 4: Farnell; Supplier Part Number 4: 1816054; Code_JEDEC: MS-012; Code_IPC: SOIC127P600-8; ComponentLink1Description: Datasheet; ComponentLink1URL: http://ww1.microchip.com/downloads/en/DeviceDoc/41190F.pdf; ComponentLink2Description: Packaging Specification; ComponentLink2URL: http://www.microchip.com/stellent/groups/techpub_sg/documents/packagingspec/en012702.pdf; ComponentLink3Description: Microchip.com Home; ComponentLink3URL: http://www.microchip.com/
footprint SOIC-SN8_N (SOIC, 8-Leads, Body 4.9x3.8mm, Pitch 1.27mm, IPC Medium Density)
footprint SOIC-SN8_L (SOIC, 8-Leads, Body 4.9x3.8mm, Pitch 1.27mm, IPC High Density)
footprint SOIC-SN8_M (SOIC, 8-Leads, Body 4.9x3.8mm, Pitch 1.27mm, IPC Low Density)
pins: 1 VDD (power), 2 GP5/T1CKI/OSC1/CLKIN (io), 3 GP4/~{T1G}/OSC2/CLKOUT (io), 4 GP3/~{MCLR}/VPP (io), 5 GP2/T0CKI/INT/COUT (io), 6 GP1/CIN-/ICSPCLK (io), 7 GP0/CIN+/ICSPDAT (io), 8 VSS (power)

## PIC12F629T-I/MD
designator U?
Flash-Based 8-Bit CMOS Microcontroller, 1K (x14-Bit words) Program Memory, 192 Bytes Data Memory, 8-Pin DFN, Industrial Temperature, Tape and Reel; Published: 29-Jan-2009; LatestRevisionDate: 02-Dec-2009; LatestRevisionNote: Updated to datasheet revision revF, Sep-2009.; DatasheetVersion: revF, Sep-2009; PackageVersion: revBB, Aug-2009; PackageReference: DFN-MD8; Publisher: Altium Limited; PackageDescription: 8-Lead Plastic Dual Flat, No Lead Package (MD) - 4x4x0.9mm Body [DFN]; Supplier 1: Digi-Key; Supplier Part Number 1: PIC12F629T-I/MD-ND; ComponentLink1Description: Datasheet; ComponentLink1URL: http://ww1.microchip.com/downloads/en/DeviceDoc/41190F.pdf; ComponentLink2Description: Packaging Specification; ComponentLink2URL: http://www.microchip.com/stellent/groups/techpub_sg/documents/packagingspec/en012702.pdf; ComponentLink3Description: Microchip.com Home; ComponentLink3URL: http://www.microchip.com/
footprint DFN-MD8 (SON, 8-Leads, Body 4x4mm, Pitch 0.8mm, Microchip Recommended)
pins: 1 VDD (power), 2 GP5/T1CKI/OSC1/CLKIN (io), 3 GP4/~{T1G}/OSC2/CLKOUT (io), 4 GP3/~{MCLR}/VPP (io), 5 GP2/T0CKI/INT/COUT (io), 6 GP1/CIN-/ICSPCLK (io), 7 GP0/CIN+/ICSPDAT (io), 8 VSS (power), 9 Thermal Pad

## PIC12F629T-I/MF
designator U?
Flash-Based 8-Bit CMOS Microcontroller, 1K (x14-Bit words) Program Memory, 192 Bytes Data Memory, 8-Pin DFN, Industrial Temperature, Tape and Reel; Published: 29-Jan-2009; LatestRevisionDate: 02-Dec-2009; LatestRevisionNote: Updated to datasheet revision revF, Sep-2009.; DatasheetVersion: revF, Sep-2009; PackageVersion: revBB, Aug-2009; PackageReference: DFNS-MF8; Publisher: Altium Limited; PackageDescription: 8-Lead Plastic Dual Flat, No Lead Package (MF) - 6x5 mm Body [DFN-S]; Supplier 1: Digi-Key; Supplier Part Number 1: PIC12F629-I/MFTR-ND; ComponentLink1Description: Datasheet; ComponentLink1URL: http://ww1.microchip.com/downloads/en/DeviceDoc/41190F.pdf; ComponentLink2Description: Packaging Specification; ComponentLink2URL: http://www.microchip.com/stellent/groups/techpub_sg/documents/packagingspec/en012702.pdf; ComponentLink3Description: Microchip.com Home; ComponentLink3URL: http://www.microchip.com/
footprint DFNS-MF8 (SON, 8-Leads, Body 5x6mm, Pitch 1.27mm, Microchip Recommended)
pins: 1 VDD (power), 2 GP5/T1CKI/OSC1/CLKIN (io), 3 GP4/~{T1G}/OSC2/CLKOUT (io), 4 GP3/~{MCLR}/VPP (io), 5 GP2/T0CKI/INT/COUT (io), 6 GP1/CIN-/ICSPCLK (io), 7 GP0/CIN+/ICSPDAT (io), 8 VSS (power), 9 Thermal Pad

## PIC12F629T-I/SN
designator U?
FLASH-Based 8-Bit CMOS Microcontroller, 8-Pin SOIC 150mil, Industrial Temperature, Tape and Reel; Note: Refer to data sheet (DS41190F) for details of supply voltage range under different conditions.; Published: 11-Oct-2004; LatestRevisionDate: 02-Dec-2009; LatestRevisionNote: Updated to datasheet revision revF, Sep-2009.; DatasheetVersion: revF, Sep-2009; PackageVersion: revBB, Aug-2009; PackageReference: SOIC-SN8; Publisher: Altium Limited; PackageDescription: 8-Lead Plastic Small Outline (SN) - Narrow, 3.90mm Body [SOIC]; Supplier 1: Digi-Key; Supplier Part Number 1: PIC12F629-I/SNTR-ND; Code_JEDEC: MS-012; Code_IPC: SOIC127P600-8; ComponentLink1Description: Datasheet; ComponentLink1URL: http://ww1.microchip.com/downloads/en/DeviceDoc/41190F.pdf; ComponentLink2Description: Packaging Specification; ComponentLink2URL: http://www.microchip.com/stellent/groups/techpub_sg/documents/packagingspec/en012702.pdf; ComponentLink3Description: Microchip.com Home; ComponentLink3URL: http://www.microchip.com/
footprint SOIC-SN8_N (SOIC, 8-Leads, Body 4.9x3.8mm, Pitch 1.27mm, IPC Medium Density)
footprint SOIC-SN8_L (SOIC, 8-Leads, Body 4.9x3.8mm, Pitch 1.27mm, IPC High Density)
footprint SOIC-SN8_M (SOIC, 8-Leads, Body 4.9x3.8mm, Pitch 1.27mm, IPC Low Density)
pins: 1 VDD (power), 2 GP5/T1CKI/OSC1/CLKIN (io), 3 GP4/~{T1G}/OSC2/CLKOUT (io), 4 GP3/~{MCLR}/VPP (io), 5 GP2/T0CKI/INT/COUT (io), 6 GP1/CIN-/ICSPCLK (io), 7 GP0/CIN+/ICSPDAT (io), 8 VSS (power)

## PIC12F635-E/MF
designator U?
Flash-Based 8-Bit CMOS Microcontroller with nanoWatt Technology, 1K (x14-Bit words) Program Memory, 192 Bytes Data Memory, 8-Pin DFN, Extended Temperature; Published: 29-Jan-2009; LatestRevisionDate: 02-Dec-2009; LatestRevisionNote: Updated to datasheet revision revD, Mar-2007; DatasheetVersion: revD, Mar-2007; PackageVersion: revBB, Aug-2009; PackageReference: DFNS-MF8; Publisher: Altium Limited; PackageDescription: 8-Lead Plastic Dual Flat, No Lead Package (MF) - 6x5 mm Body [DFN-S]; Supplier 1: Digi-Key; Supplier Part Number 1: PIC12F635-E/MF-ND; ComponentLink1Description: Datasheet; ComponentLink1URL: http://ww1.microchip.com/downloads/en/DeviceDoc/41232D.pdf; ComponentLink2Description: Packaging Specification; ComponentLink2URL: http://www.microchip.com/stellent/groups/techpub_sg/documents/packagingspec/en012702.pdf; ComponentLink3Description: Microchip.com Home; ComponentLink3URL: http://www.microchip.com/
footprint DFNS-MF8 (SON, 8-Leads, Body 5x6mm, Pitch 1.27mm, Microchip Recommended)
pins: 1 VDD (power), 2 GP5/T1CKI/OSC1/CLKIN (io), 3 GP4/~{T1G}/OSC2/CLKOUT (io), 4 GP3/~{MCLR}/VDD (io), 5 GP2/T0CKI/INT/COUT (io), 6 GP1/CIN-/ICSPCLK (io), 7 GP0/CIN+/ICSPDAT/ULPWU (io), 8 VSS (power), 9 Thermal Pad

## PIC12F635-E/P
designator U?
Flash-Based 8-Bit CMOS Microcontroller with nanoWatt Technology, 1K (x14-Bit words) Program Memory, 192 Bytes Data Memory, 8-Pin PDIP, Extended Temperature; Published: 29-Jan-2009; LatestRevisionDate: 02-Dec-2009; LatestRevisionNote: Updated to datasheet revision revD, Mar-2007; DatasheetVersion: revD, Mar-2007; PackageVersion: revBB, Aug-2009; PackageReference: PDIP300-P8; Publisher: Altium Limited; PackageDescription: 8-Lead Plastic Dual In-Line (P) - 300 mil Body [PDIP]; Supplier 1: Digi-Key; Supplier Part Number 1: PIC12F635-E/P-ND; Code_JEDEC: MS-001; ComponentLink1Description: Datasheet; ComponentLink1URL: http://ww1.microchip.com/downloads/en/DeviceDoc/41232D.pdf; ComponentLink2Description: Packaging Specification; ComponentLink2URL: http://www.microchip.com/stellent/groups/techpub_sg/documents/packagingspec/en012702.pdf; ComponentLink3Description: Microchip.com Home; ComponentLink3URL: http://www.microchip.com/
footprint PDIP300-P8 (DIP, 8-Leads, Row Spacing 7.62mm, Pitch 2.54mm, Body 9.5x6.6mm)
pins: 1 VDD (power), 2 GP5/T1CKI/OSC1/CLKIN (io), 3 GP4/~{T1G}/OSC2/CLKOUT (io), 4 GP3/~{MCLR}/VPP (io), 5 GP2/T0CKI/INT/C1OUT (io), 6 GP1/C1IN-/ICSPCLK (io), 7 GP0/C1IN+/ICSPDAT/ULPWU (io), 8 VSS (power)

## PIC12F635-E/SN
designator U?
Flash-Based 8-Bit CMOS Microcontroller with nanoWatt Technology, 1K (x14-Bit words) Program Memory, 192 Bytes Data Memory, 8-Pin SOIC, Extended Temperature; Published: 29-Jan-2009; LatestRevisionDate: 02-Dec-2009; LatestRevisionNote: Updated to datasheet revision revD, Mar-2007; DatasheetVersion: revD, Mar-2007; PackageVersion: revBB, Aug-2009; PackageReference: SOIC-SN8; Publisher: Altium Limited; PackageDescription: 8-Lead Plastic Small Outline (SN) - Narrow, 3.90mm Body [SOIC]; Supplier 1: Digi-Key; Supplier Part Number 1: PIC12F635-E/SN-ND; Code_JEDEC: MS-012; Code_IPC: SOIC127P600-8; ComponentLink1Description: Datasheet; ComponentLink1URL: http://ww1.microchip.com/downloads/en/DeviceDoc/41232D.pdf; ComponentLink2Description: Packaging Specification; ComponentLink2URL: http://www.microchip.com/stellent/groups/techpub_sg/documents/packagingspec/en012702.pdf; ComponentLink3Description: Microchip.com Home; ComponentLink3URL: http://www.microchip.com/
footprint SOIC-SN8_N (SOIC, 8-Leads, Body 4.9x3.8mm, Pitch 1.27mm, IPC Medium Density)
footprint SOIC-SN8_L (SOIC, 8-Leads, Body 4.9x3.8mm, Pitch 1.27mm, IPC High Density)
footprint SOIC-SN8_M (SOIC, 8-Leads, Body 4.9x3.8mm, Pitch 1.27mm, IPC Low Density)
pins: 1 VDD (power), 2 GP5/T1CKI/OSC1/CLKIN (io), 3 GP4/~{T1G}/OSC2/CLKOUT (io), 4 GP3/~{MCLR}/VPP (io), 5 GP2/T0CKI/INT/C1OUT (io), 6 GP1/C1IN-/ICSPCLK (io), 7 GP0/C1IN+/ICSPDAT/ULPWU (io), 8 VSS (power)

## PIC12F635-I/MD
designator U?
Flash-Based 8-Bit CMOS Microcontroller with nanoWatt Technology, 1K (x14-Bit words) Program Memory, 192 Bytes Data Memory, 8-Pin DFN, Industrial Temperature; Published: 29-Jan-2009; LatestRevisionDate: 02-Dec-2009; LatestRevisionNote: Updated to datasheet revision revD, Mar-2007; DatasheetVersion: revD, Mar-2007; PackageVersion: revBB, Aug-2009; PackageReference: DFN-MD8; Publisher: Altium Limited; PackageDescription: 8-Lead Plastic Dual Flat, No Lead Package (MD) - 4x4x0.9mm Body [DFN]; Supplier 1: Digi-Key; Supplier Part Number 1: PIC12F635-I/MD-ND; Supplier 2: Farnell; Supplier Part Number 2: 1755835; ComponentLink1Description: Datasheet; ComponentLink1URL: http://ww1.microchip.com/downloads/en/DeviceDoc/41232D.pdf; ComponentLink2Description: Packaging Specification; ComponentLink2URL: http://www.microchip.com/stellent/groups/techpub_sg/documents/packagingspec/en012702.pdf; ComponentLink3Description: Microchip.com Home; ComponentLink3URL: http://www.microchip.com/
footprint DFN-MD8 (SON, 8-Leads, Body 4x4mm, Pitch 0.8mm, Microchip Recommended)
pins: 1 VDD (power), 2 GP5/T1CKI/OSC1/CLKIN (io), 3 GP4/~{T1G}/OSC2/CLKOUT (io), 4 GP3/~{MCLR}/VDD (io), 5 GP2/T0CKI/INT/COUT (io), 6 GP1/CIN-/ICSPCLK (io), 7 GP0/CIN+/ICSPDAT/ULPWU (io), 8 VSS (power), 9 Thermal Pad

## PIC12F635-I/MF
designator U?
Flash-Based 8-Bit CMOS Microcontroller with nanoWatt Technology, 1K (x14-Bit words) Program Memory, 192 Bytes Data Memory, 8-Pin DFN, Industrial Temperature; Published: 29-Jan-2009; LatestRevisionDate: 02-Dec-2009; LatestRevisionNote: Updated to datasheet revision revD, Mar-2007; DatasheetVersion: revD, Mar-2007; PackageVersion: revBB, Aug-2009; PackageReference: DFNS-MF8; Publisher: Altium Limited; PackageDescription: 8-Lead Plastic Dual Flat, No Lead Package (MF) - 6x5 mm Body [DFN-S]; Supplier 1: Digi-Key; Supplier Part Number 1: PIC12F635-I/MF-ND; Supplier 2: Farnell; Supplier Part Number 2: 1137330; ComponentLink1Description: Datasheet; ComponentLink1URL: http://ww1.microchip.com/downloads/en/DeviceDoc/41232D.pdf; ComponentLink2Description: Packaging Specification; ComponentLink2URL: http://www.microchip.com/stellent/groups/techpub_sg/documents/packagingspec/en012702.pdf; ComponentLink3Description: Microchip.com Home; ComponentLink3URL: http://www.microchip.com/
footprint DFNS-MF8 (SON, 8-Leads, Body 5x6mm, Pitch 1.27mm, Microchip Recommended)
pins: 1 VDD (power), 2 GP5/T1CKI/OSC1/CLKIN (io), 3 GP4/~{T1G}/OSC2/CLKOUT (io), 4 GP3/~{MCLR}/VDD (io), 5 GP2/T0CKI/INT/COUT (io), 6 GP1/CIN-/ICSPCLK (io), 7 GP0/CIN+/ICSPDAT/ULPWU (io), 8 VSS (power), 9 Thermal Pad

## PIC12F635-I/P
designator U?
Flash-Based 8-Bit CMOS Microcontroller with nanoWatt Technology, 1K (x14-Bit words) Program Memory, 192 Bytes Data Memory, 8-Pin PDIP, Industrial Temperature; Published: 29-Jan-2009; LatestRevisionDate: 02-Dec-2009; LatestRevisionNote: Updated to datasheet revision revD, Mar-2007; DatasheetVersion: revD, Mar-2007; PackageVersion: revBB, Aug-2009; PackageReference: PDIP300-P8; Publisher: Altium Limited; PackageDescription: 8-Lead Plastic Dual In-Line (P) - 300 mil Body [PDIP]; Supplier 1: Digi-Key; Supplier Part Number 1: PIC12F635-I/P-ND; Supplier 2: Farnell; Supplier Part Number 2: 1212687; Code_JEDEC: MS-001; ComponentLink1Description: Datasheet; ComponentLink1URL: http://ww1.microchip.com/downloads/en/DeviceDoc/41232D.pdf; ComponentLink2Description: Packaging Specification; ComponentLink2URL: http://www.microchip.com/stellent/groups/techpub_sg/documents/packagingspec/en012702.pdf; ComponentLink3Description: Microchip.com Home; ComponentLink3URL: http://www.microchip.com/
footprint PDIP300-P8 (DIP, 8-Leads, Row Spacing 7.62mm, Pitch 2.54mm, Body 9.5x6.6mm)
pins: 1 VDD (power), 2 GP5/T1CKI/OSC1/CLKIN (io), 3 GP4/~{T1G}/OSC2/CLKOUT (io), 4 GP3/~{MCLR}/VPP (io), 5 GP2/T0CKI/INT/C1OUT (io), 6 GP1/C1IN-/ICSPCLK (io), 7 GP0/C1IN+/ICSPDAT/ULPWU (io), 8 VSS (power)

## PIC12F635-I/SN
designator U?
Flash-Based 8-Bit CMOS Microcontroller with nanoWatt Technology, 1K (x14-Bit words) Program Memory, 192 Bytes Data Memory, 8-Pin SOIC, Industrial Temperature; Published: 29-Jan-2009; LatestRevisionDate: 02-Dec-2009; LatestRevisionNote: Updated to datasheet revision revD, Mar-2007; DatasheetVersion: revD, Mar-2007; PackageVersion: revBB, Aug-2009; PackageReference: SOIC-SN8; Publisher: Altium Limited; PackageDescription: 8-Lead Plastic Small Outline (SN) - Narrow, 3.90mm Body [SOIC]; Supplier 1: Digi-Key; Supplier Part Number 1: PIC12F635-I/SN-ND; Supplier 2: Farnell; Supplier Part Number 2: 1212689; Code_JEDEC: MS-012; Code_IPC: SOIC127P600-8; ComponentLink1Description: Datasheet; ComponentLink1URL: http://ww1.microchip.com/downloads/en/DeviceDoc/41232D.pdf; ComponentLink2Description: Packaging Specification; ComponentLink2URL: http://www.microchip.com/stellent/groups/techpub_sg/documents/packagingspec/en012702.pdf; ComponentLink3Description: Microchip.com Home; ComponentLink3URL: http://www.microchip.com/
footprint SOIC-SN8_N (SOIC, 8-Leads, Body 4.9x3.8mm, Pitch 1.27mm, IPC Medium Density)
footprint SOIC-SN8_L (SOIC, 8-Leads, Body 4.9x3.8mm, Pitch 1.27mm, IPC High Density)
footprint SOIC-SN8_M (SOIC, 8-Leads, Body 4.9x3.8mm, Pitch 1.27mm, IPC Low Density)
pins: 1 VDD (power), 2 GP5/T1CKI/OSC1/CLKIN (io), 3 GP4/~{T1G}/OSC2/CLKOUT (io), 4 GP3/~{MCLR}/VPP (io), 5 GP2/T0CKI/INT/C1OUT (io), 6 GP1/C1IN-/ICSPCLK (io), 7 GP0/C1IN+/ICSPDAT/ULPWU (io), 8 VSS (power)

## PIC12F635T-I/MD
designator U?
Flash-Based 8-Bit CMOS Microcontroller with nanoWatt Technology, 1K (x14-Bit words) Program Memory, 192 Bytes Data Memory, 8-Pin DFN, Industrial Temperature, Tape and Reel; Published: 29-Jan-2009; LatestRevisionDate: 02-Dec-2009; LatestRevisionNote: Updated to datasheet revision revD, Mar-2007; DatasheetVersion: revD, Mar-2007; PackageVersion: revBB, Aug-2009; PackageReference: DFN-MD8; Publisher: Altium Limited; PackageDescription: 8-Lead Plastic Dual Flat, No Lead Package (MD) - 4x4x0.9mm Body [DFN]; Supplier 1: Digi-Key; Supplier Part Number 1: PIC12F635T-I/MD-ND; ComponentLink1Description: Datasheet; ComponentLink1URL: http://ww1.microchip.com/downloads/en/DeviceDoc/41232D.pdf; ComponentLink2Description: Packaging Specification; ComponentLink2URL: http://www.microchip.com/stellent/groups/techpub_sg/documents/packagingspec/en012702.pdf; ComponentLink3Description: Microchip.com Home; ComponentLink3URL: http://www.microchip.com/
footprint DFN-MD8 (SON, 8-Leads, Body 4x4mm, Pitch 0.8mm, Microchip Recommended)
pins: 1 VDD (power), 2 GP5/T1CKI/OSC1/CLKIN (io), 3 GP4/~{T1G}/OSC2/CLKOUT (io), 4 GP3/~{MCLR}/VDD (io), 5 GP2/T0CKI/INT/COUT (io), 6 GP1/CIN-/ICSPCLK (io), 7 GP0/CIN+/ICSPDAT/ULPWU (io), 8 VSS (power), 9 Thermal Pad

## PIC12F635T-I/MF
designator U?
Flash-Based 8-Bit CMOS Microcontroller with nanoWatt Technology, 1K (x14-Bit words) Program Memory, 192 Bytes Data Memory, 8-Pin DFN, Industrial Temperature, Tape and Reel; Published: 29-Jan-2009; LatestRevisionDate: 02-Dec-2009; LatestRevisionNote: Updated to datasheet revision revD, Mar-2007; DatasheetVersion: revD, Mar-2007; PackageVersion: revBB, Aug-2009; PackageReference: DFNS-MF8; Publisher: Altium Limited; PackageDescription: 8-Lead Plastic Dual Flat, No Lead Package (MF) - 6x5 mm Body [DFN-S]; Supplier 1: Digi-Key; Supplier Part Number 1: PIC12F635T-I/MF-ND; ComponentLink1Description: Datasheet; ComponentLink1URL: http://ww1.microchip.com/downloads/en/DeviceDoc/41232D.pdf; ComponentLink2Description: Packaging Specification; ComponentLink2URL: http://www.microchip.com/stellent/groups/techpub_sg/documents/packagingspec/en012702.pdf; ComponentLink3Description: Microchip.com Home; ComponentLink3URL: http://www.microchip.com/
footprint DFNS-MF8 (SON, 8-Leads, Body 5x6mm, Pitch 1.27mm, Microchip Recommended)
pins: 1 VDD (power), 2 GP5/T1CKI/OSC1/CLKIN (io), 3 GP4/~{T1G}/OSC2/CLKOUT (io), 4 GP3/~{MCLR}/VDD (io), 5 GP2/T0CKI/INT/COUT (io), 6 GP1/CIN-/ICSPCLK (io), 7 GP0/CIN+/ICSPDAT/ULPWU (io), 8 VSS (power), 9 Thermal Pad

## PIC12F635T-I/SN
designator U?
Flash-Based 8-Bit CMOS Microcontroller with nanoWatt Technology, 1K (x14-Bit words) Program Memory, 192 Bytes Data Memory, 8-Pin SOIC, Industrial Temperature, Tape and Reel; Published: 29-Jan-2009; LatestRevisionDate: 02-Dec-2009; LatestRevisionNote: Updated to datasheet revision revD, Mar-2007; DatasheetVersion: revD, Mar-2007; PackageVersion: revBB, Aug-2009; PackageReference: SOIC-SN8; Publisher: Altium Limited; PackageDescription: 8-Lead Plastic Small Outline (SN) - Narrow, 3.90mm Body [SOIC]; Supplier 1: Digi-Key; Supplier Part Number 1: PIC12F635T-I/SN-ND; Code_JEDEC: MS-012; Code_IPC: SOIC127P600-8; ComponentLink1Description: Datasheet; ComponentLink1URL: http://ww1.microchip.com/downloads/en/DeviceDoc/41232D.pdf; ComponentLink2Description: Packaging Specification; ComponentLink2URL: http://www.microchip.com/stellent/groups/techpub_sg/documents/packagingspec/en012702.pdf; ComponentLink3Description: Microchip.com Home; ComponentLink3URL: http://www.microchip.com/
footprint SOIC-SN8_N (SOIC, 8-Leads, Body 4.9x3.8mm, Pitch 1.27mm, IPC Medium Density)
footprint SOIC-SN8_L (SOIC, 8-Leads, Body 4.9x3.8mm, Pitch 1.27mm, IPC High Density)
footprint SOIC-SN8_M (SOIC, 8-Leads, Body 4.9x3.8mm, Pitch 1.27mm, IPC Low Density)
pins: 1 VDD (power), 2 GP5/T1CKI/OSC1/CLKIN (io), 3 GP4/~{T1G}/OSC2/CLKOUT (io), 4 GP3/~{MCLR}/VPP (io), 5 GP2/T0CKI/INT/C1OUT (io), 6 GP1/C1IN-/ICSPCLK (io), 7 GP0/C1IN+/ICSPDAT/ULPWU (io), 8 VSS (power)

## PIC12F675-E/MD
designator U?
Flash-Based 8-Bit CMOS Microcontroller, 1K (x14-Bit words) Program Memory, 192 Bytes Data Memory, 8-Pin DFN, Extended Temperature; Published: 29-Jan-2009; LatestRevisionDate: 02-Dec-2009; LatestRevisionNote: Updated to datasheet revision revF, Sep-2009.; DatasheetVersion: revF, Sep-2009; PackageVersion: revBB, Aug-2009; PackageReference: DFN-MD8; Publisher: Altium Limited; PackageDescription: 8-Lead Plastic Dual Flat, No Lead Package (MD) - 4x4x0.9mm Body [DFN]; Supplier 1: Digi-Key; Supplier Part Number 1: PIC12F675-E/MD-ND; ComponentLink1Description: Datasheet; ComponentLink1URL: http://ww1.microchip.com/downloads/en/DeviceDoc/41190F.pdf; ComponentLink2Description: Packaging Specification; ComponentLink2URL: http://www.microchip.com/stellent/groups/techpub_sg/documents/packagingspec/en012702.pdf; ComponentLink3Description: Microchip.com Home; ComponentLink3URL: http://www.microchip.com/
footprint DFN-MD8 (SON, 8-Leads, Body 4x4mm, Pitch 0.8mm, Microchip Recommended)
pins: 1 VDD (power), 2 GP5/T1CKI/OSC1/CLKIN (io), 3 GP4/AN3/~{T1G}/OSC2/CLKOUT (io), 4 GP3/~{MCLR}/VPP (io), 5 GP2/AN2/T0CKI/INT/COUT (io), 6 GP1/AN1/CIN-/VREF/ICSPCLK (io), 7 GP0/AN0/CIN+/ICSPDAT (io), 8 VSS (power), 9 Thermal Pad